# Altium schematic symbol library NCS_Wireless_Bed_Unit.SchLib: 7 symbols
Pins are listed as number, name and electrical type; pins without a type are passive.

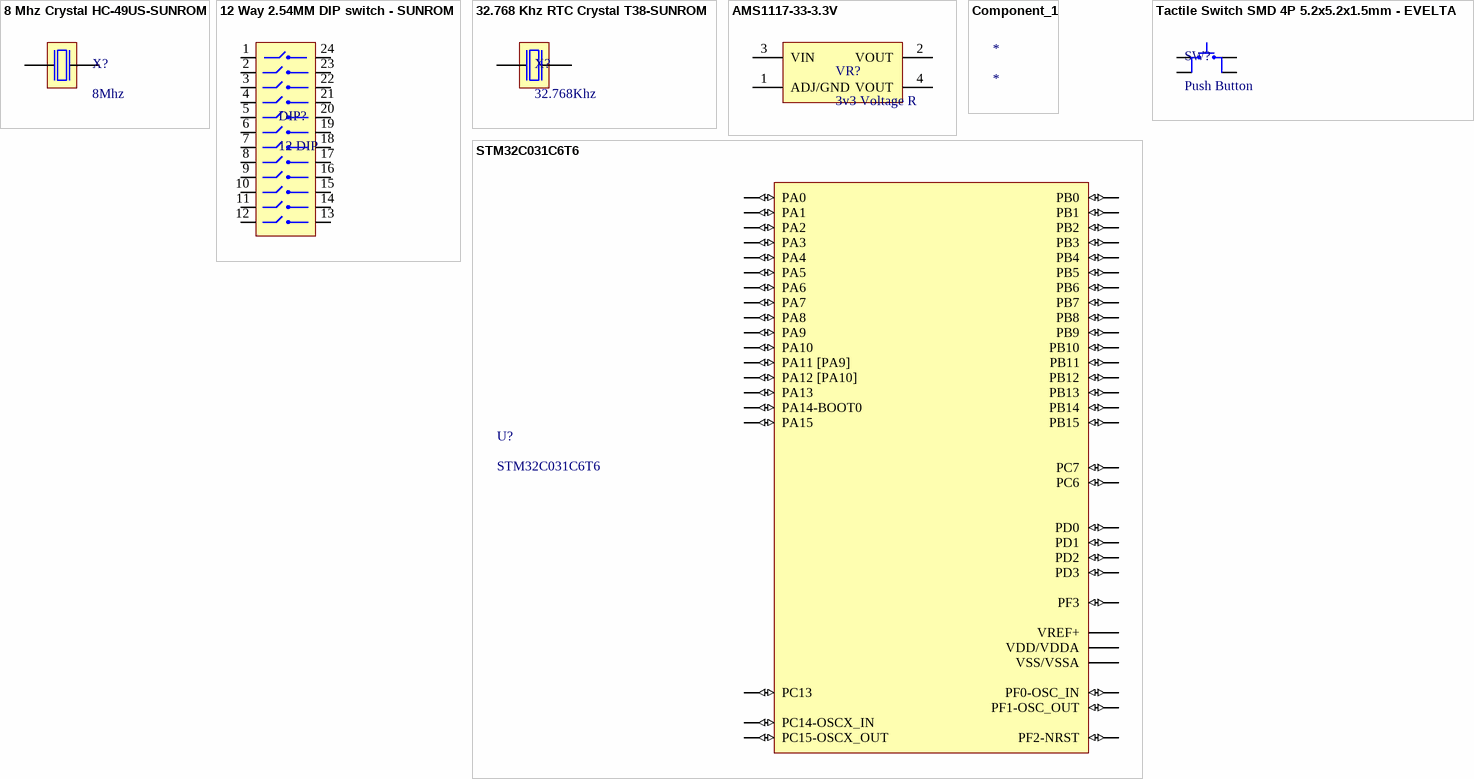
[diagram p0: symbols 8 Mhz Crystal HC-49US-SUNROM to Tactile Switch SMD 4P 5.2x5.2x1.5mm - EVELTA]

## 8 Mhz Crystal HC-49US-SUNROM
designator X?, comment 8Mhz
footprint 8Mhz Crystal
pins: 1, 2

## 12 Way 2.54MM DIP switch - SUNROM
designator DIP?, comment 12 DIP
footprint DIP24
pins: 1, 2, 3, 4, 5, 6, 7, 8, 9, 10, 11, 12, 13, 14, 15, 16, 17, 18, 19, 20, 21, 22, 23, 24

## 32.768 Khz RTC Crystal T38-SUNROM
designator X?, comment 32.768Khz
footprint 32.768KHz
pins: 1, 2

## AMS1117-33-3.3V
designator VR?, comment 3v3 Voltage R
footprint SAMS1117-33-4N (SOT223, 4-Leads, Body 6.50x7.00mm (avg), Pitch 2.30mm, IPC Medium Density)
pins: 1 ADJ/GND, 2 VOUT, 3 VIN, 4 VOUT

## Component_1
designator *

## STM32C031C6T6
designator U?
RISC Microcontroller, 32-Bit, FLASH, CORTEX-M4F CPU, 180MHz, CMOS, PBGA216; Manufacturer: STMicroelectronics; Supplier 1: Mouser; Manufacturer Part Number: STM32C031C6T6; RoHS: No; Category: Microcontrollers; Stock 1: 900; Pricing 1: 1=2.39, 10=1.53, 50=1.36, 100=1.12, 1000=0.78, 10000=0.629 (USD); ComponentLink1URL: https://datasheet.octopart.com/STM32C031C6T6-STMicroelectronics-datasheet-168218616.pdf?src-supplier=TME; ComponentLink1Description: https://datasheet.octopart.com/STM32C031C6T6-STMicroelectronics-datasheet-168218616.pdf?src-supplier=TME; Supplier Part Number 1: 511-STM32C031C6T6
footprint STM32C031C6T6-48N (TSQFP, 48-Leads, Body 7.30x7.30mm, Pitch 0.50mm, IPC Medium Density)
pins: 1 PC13 (io), 2 PC14-OSCX_IN (io), 3 PC15-OSCX_OUT (io), 4 PF3 (io), 5 VREF+ (power), 6 VDD/VDDA (power), 7 VSS/VSSA (power), 8 PF0-OSC_IN (io), 9 PF1-OSC_OUT (io), 10 PF2-NRST (io), 11 PA0 (io), 12 PA1 (io), 13 PA2 (io), 14 PA3 (io), 15 PA4 (io), 16 PA5 (io), 17 PA6 (io), 18 PA7 (io), 19 PB0 (io), 20 PB1 (io), 21 PB2 (io), 22 PB10 (io), 23 PB11 (io), 24 PB12 (io), 25 PB13 (io), 26 PB14 (io), 27 PB15 (io), 28 PA8 (io), 29 PA9 (io), 30 PC6 (io), 31 PC7 (io), 32 PA10 (io), 33 PA11 [PA9] (io), 34 PA12 [PA10] (io), 35 PA13 (io), 36 PA14-BOOT0 (io), 37 PA15 (io), 38 PD0 (io), 39 PD1 (io), 40 PD2 (io), 41 PD3 (io), 42 PB3 (io), 43 PB4 (io), 44 PB5 (io), 45 PB6 (io), 46 PB7 (io), 47 PB8 (io), 48 PB9 (io)

## Tactile Switch SMD 4P 5.2x5.2x1.5mm - EVELTA
designator SW?, comment Push Button
footprint PUSH BUTTON SMD
pins: 1, 2, 3, 4